# Altium schematic symbol library MainLib.SchLib: 18 symbols
Pins are listed as number, name and electrical type; pins without a type are passive.

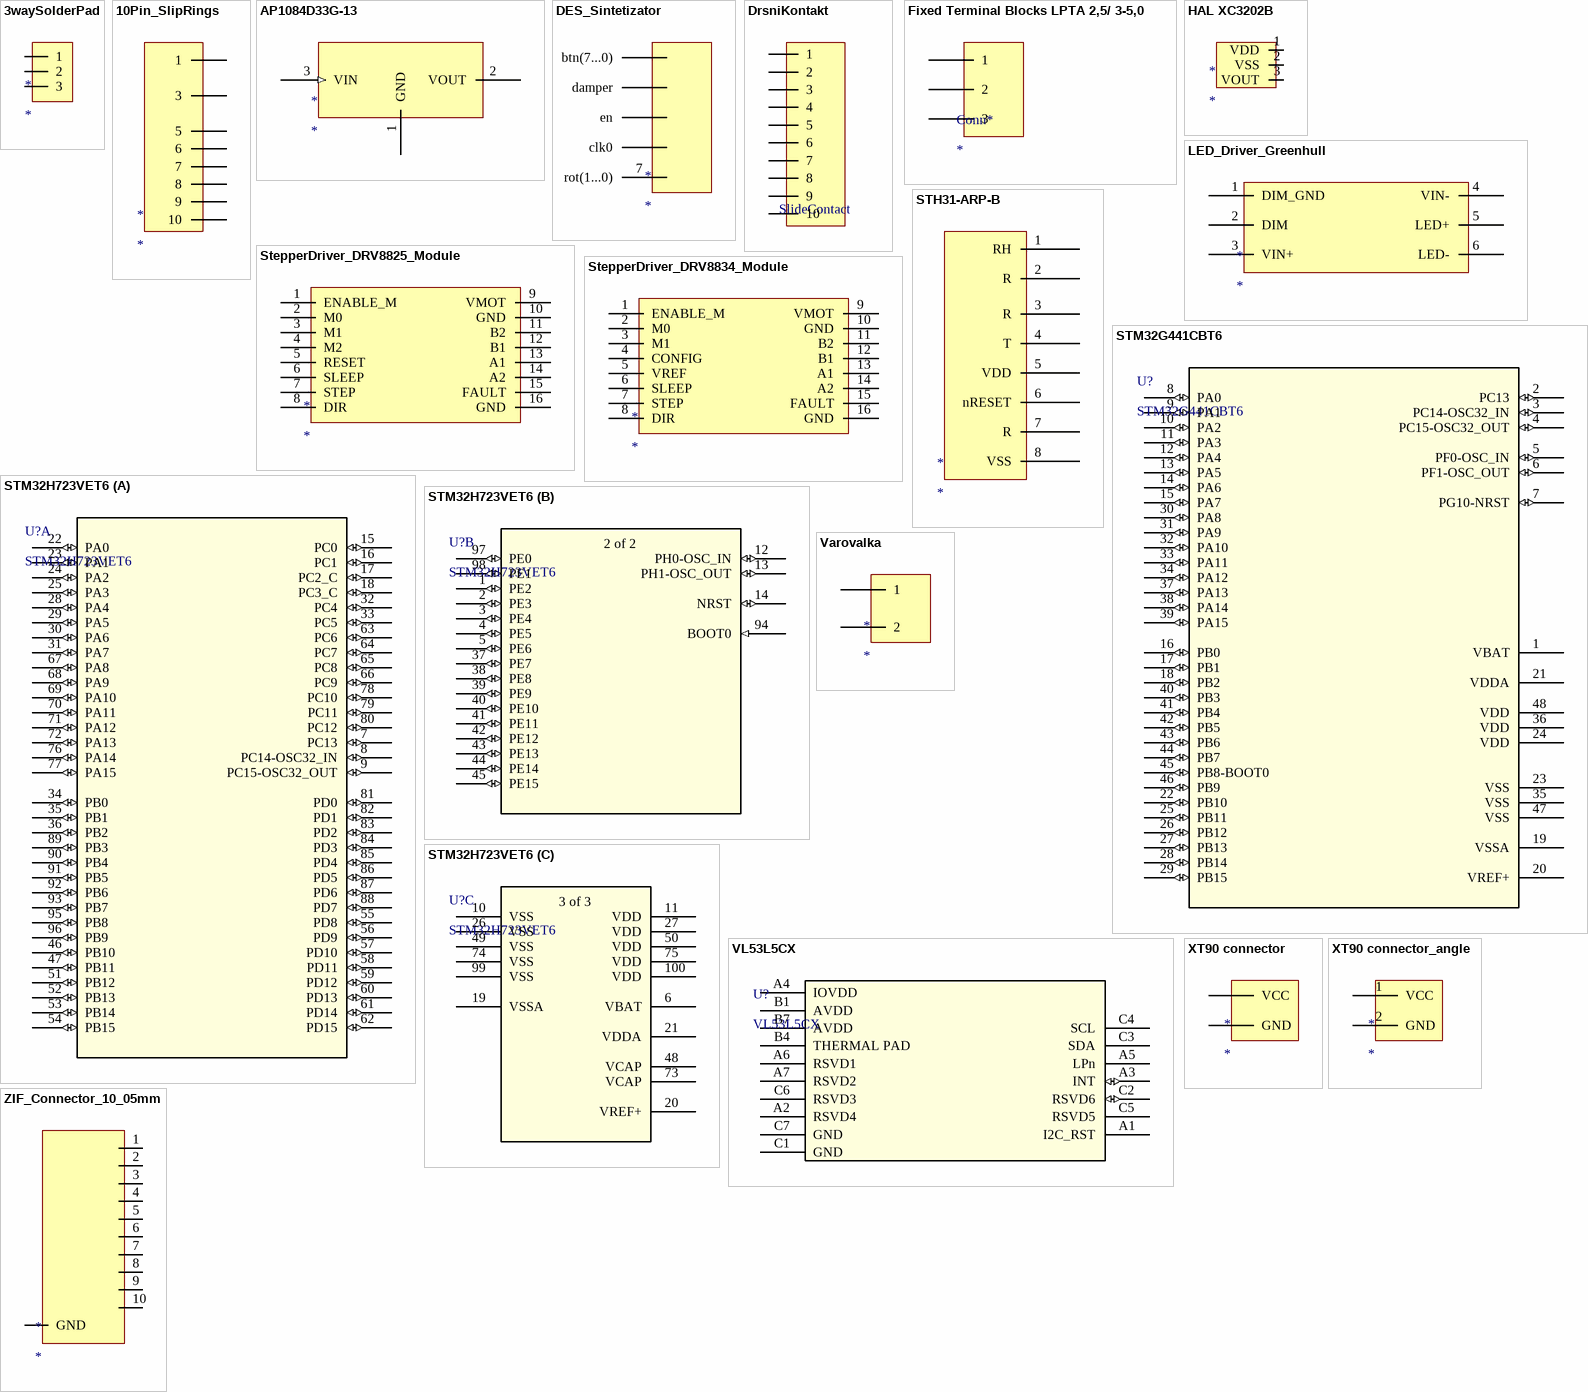
[diagram p0: symbols 3waySolderPad to ZIF_Connector_10_05mm]

## 3waySolderPad
designator *
footprint 3waySolderPad
pins: 1, 2, 3

## 10Pin_SlipRings
designator *
footprint 10Pin_SlipRings
pins: 1, 3, 5, 6, 7, 8, 9, 10

## AP1084D33G-13
designator *
footprint AP1084D33G-13
pins: 1 GND (power), 2 VOUT (power), 3 VIN (in)

## DES_Sintetizator
designator *
pins: 3 btn(7...0), 4 damper, 5 en, 6 clk0, 7 rot(1...0)

## DrsniKontakt
designator SlideContact  (value not drawn)
pins: 1, 2, 3, 4, 5, 6, 7, 8, 9, 10

## Fixed Terminal Blocks LPTA 2,5/ 3-5,0
designator Conn*
footprint Fixed Terminal Blocks LPTA 2,5/ 3-5,0
pins: 1, 2, 3

## HAL XC3202B
designator *
footprint HAL XC3202B (SOT23, 3-Leads, Body 3.00x2.85mm, Pitch 0.95mm, IPC Medium Density)
pins: 1 VDD, 2 VSS, 3 VOUT

## LED_Driver_Greenhull
designator *
footprint Led_Driver_GreenHull
pins: 1 DIM_GND, 2 DIM, 3 VIN+, 4 VIN-, 5 LED+, 6 LED-

## StepperDriver_DRV8825_Module
designator *
footprint StepperDriver_DRV8825_Module (https://www.pololu.com/product/2133)
pins: 1 ENABLE_M, 2 M0, 3 M1, 4 M2, 5 RESET, 6 SLEEP, 7 STEP, 8 DIR, 9 VMOT, 10 GND, 11 B2, 12 B1, 13 A1, 14 A2, 15 FAULT, 16 GND

## StepperDriver_DRV8834_Module
designator *
footprint StepperDriver_DRV8834_Module (https://www.pololu.com/product/2133)
pins: 1 ENABLE_M, 2 M0, 3 M1, 4 CONFIG, 5 VREF, 6 SLEEP, 7 STEP, 8 DIR, 9 VMOT, 10 GND, 11 B2, 12 B1, 13 A1, 14 A2, 15 FAULT, 16 GND

## STH31-ARP-B
designator *
footprint STH31-ARP-B
pins: 1 RH, 2 R, 3 R, 4 T, 5 VDD, 6 nRESET, 7 R, 8 VSS

## STM32G441CBT6
designator U?
No Description Available; Mfr_Name: STMicroelectronics; Copyright: Copyright (C) 2022 Ultra Librarian. All rights reserved.; Manufacturer_Part_Number: STM32G441CBT6; RefDes: RefDes; Type: DEV
footprint LQFP48-7x7mm
pins: 1 VBAT (power), 2 PC13 (io), 3 PC14-OSC32_IN (io), 4 PC15-OSC32_OUT (io), 5 PF0-OSC_IN (io), 6 PF1-OSC_OUT (io), 7 PG10-NRST (io), 8 PA0 (io), 9 PA1 (io), 10 PA2 (io), 11 PA3 (io), 12 PA4 (io), 13 PA5 (io), 14 PA6 (io), 15 PA7 (io), 16 PB0 (io), 17 PB1 (io), 18 PB2 (io), 19 VSSA (power), 20 VREF+ (power), 21 VDDA (power), 22 PB10 (io), 23 VSS (power), 24 VDD (power), 25 PB11 (io), 26 PB12 (io), 27 PB13 (io), 28 PB14 (io), 29 PB15 (io), 30 PA8 (io), 31 PA9 (io), 32 PA10 (io), 33 PA11 (io), 34 PA12 (io), 35 VSS (power), 36 VDD (power), 37 PA13 (io), 38 PA14 (io), 39 PA15 (io), 40 PB3 (io), 41 PB4 (io), 42 PB5 (io), 43 PB6 (io), 44 PB7 (io), 45 PB8-BOOT0 (io), 46 PB9 (io), 47 VSS (power), 48 VDD (power)

## STM32H723VET6
designator U?
No Description Available; Mfr_Name: STMicroelectronics; Copyright: Copyright (C) 2022 Ultra Librarian. All rights reserved.; Manufacturer_Part_Number: STM32H723VET6; RefDes: RefDes; Type: DEV
footprint LQFP100_STM
part A pins: 7 PC13 (io), 8 PC14-OSC32_IN (io), 9 PC15-OSC32_OUT (io), 15 PC0 (io), 16 PC1 (io), 17 PC2_C (io), 18 PC3_C (io), 22 PA0 (io), 23 PA1 (io), 24 PA2 (io), 25 PA3 (io), 28 PA4 (io), 29 PA5 (io), 30 PA6 (io), 31 PA7 (io), 32 PC4 (io), 33 PC5 (io), 34 PB0 (io), 35 PB1 (io), 36 PB2 (io), 46 PB10 (io), 47 PB11 (io), 51 PB12 (io), 52 PB13 (io), 53 PB14 (io), 54 PB15 (io), 55 PD8 (io), 56 PD9 (io), 57 PD10 (io), 58 PD11 (io), 59 PD12 (io), 60 PD13 (io), 61 PD14 (io), 62 PD15 (io), 63 PC6 (io), 64 PC7 (io), 65 PC8 (io), 66 PC9 (io), 67 PA8 (io), 68 PA9 (io), 69 PA10 (io), 70 PA11 (io), 71 PA12 (io), 72 PA13 (io), 76 PA14 (io), 77 PA15 (io), 78 PC10 (io), 79 PC11 (io), 80 PC12 (io), 81 PD0 (io), 82 PD1 (io), 83 PD2 (io), 84 PD3 (io), 85 PD4 (io), 86 PD5 (io), 87 PD6 (io), 88 PD7 (io), 89 PB3 (io), 90 PB4 (io), 91 PB5 (io), 92 PB6 (io), 93 PB7 (io), 95 PB8 (io), 96 PB9 (io)
part B pins: 1 PE2 (io), 2 PE3 (io), 3 PE4 (io), 4 PE5 (io), 5 PE6 (io), 12 PH0-OSC_IN (io), 13 PH1-OSC_OUT (io), 14 NRST (io), 37 PE7 (io), 38 PE8 (io), 39 PE9 (io), 40 PE10 (io), 41 PE11 (io), 42 PE12 (io), 43 PE13 (io), 44 PE14 (io), 45 PE15 (io), 94 BOOT0 (in), 97 PE0 (io), 98 PE1 (io)
part C pins: 6 VBAT (power), 10 VSS (power), 11 VDD (power), 19 VSSA (power), 20 VREF+ (power), 21 VDDA (power), 26 VSS (power), 27 VDD (power), 48 VCAP (power), 49 VSS (power), 50 VDD (power), 73 VCAP (power), 74 VSS (power), 75 VDD (power), 99 VSS (power), 100 VDD (power)
part B text: 2 of 2
part C text: 3 of 3

## Varovalka
designator *
footprint Varovalka
pins: 1, 2

## VL53L5CX
designator U?
No Description Available; Mfr_Name: STMicroelectronics; Manufacturer_Part_Number: VL53L5CXV0GC/1; Copyright: Copyright (C) 2022 Ultra Librarian. All rights reserved.; RefDes: RefDes; Type: DEV
footprint vl53l5cx
pins: A1 I2C_RST, A2 RSVD4, A3 INT (io), A4 IOVDD (power), A5 LPn, A6 RSVD1, A7 RSVD2, B1 AVDD (power), B4 THERMAL PAD, B7 AVDD (power), C1 GND, C2 RSVD6 (io), C3 SDA, C4 SCL, C5 RSVD5, C6 RSVD3, C7 GND

## XT90 connector
designator *
footprint XT90 connector
pins: 1 VCC, 2 GND

## XT90 connector_angle
designator *
footprint XT90 connector angle
pins: 1 VCC, 2 GND

## ZIF_Connector_10_05mm
designator *
footprint ZIF_Connector_10_05mm
pins: 1, 2, 3, 4, 5, 6, 7, 8, 9, 10, GND